# Altium schematic symbol library Optoisolator.SchLib: 2 symbols
Pins are listed as number, name and electrical type; pins without a type are passive.

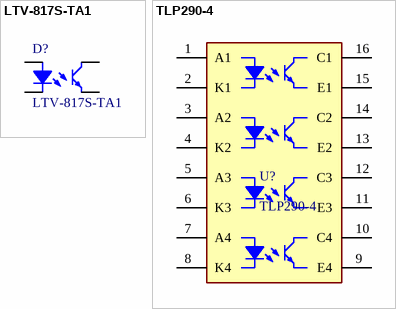
[diagram p0: symbols LTV-817S-TA1 to TLP290-4]

## LTV-817S-TA1
designator D?
OPTOISOLATR 5KV TRANSISTOR 4-SMD; Manufacturer: Lite-On Inc.; Number Of Channels: 1; Voltage - Isolation: 5000Vrms; Current Transfer Ratio (Min): 50% @ 5mA; Current Transfer Ratio (Max): 600% @ 5mA; Rise / Fall Time (Typ): 4us, 3us; Input Type: DC; Voltage - Output (Max): 35V; Current - Output / Channel: 50mA; Voltage - Forward (Vf): 1.2V; Vce Saturation (Max): 200mV; Part Number: LTV-817S-TA1; PartId: 9689; Supplier 1: Digi-Key; Supplier Part Number 1: 160-1893-2-ND; ComponentLink1Description: Datasheet; ComponentLink1URL: http://optoelectronics.liteon.com/upload/download/DS70-2012-0050/S_110_LTV-817%20(M,%20S,%20S-TA,%20S-TA1,%20S-TP)%20Series%2020130925.pdf; ComponentLink2Description: Digi-Key Listing; ComponentLink2URL: http://www.digikey.com/product-detail/en/LTV-817S-TA1/160-1893-2-ND/388451; Price: 0.1233; Device Package: 4-SMD, Gull Wing; Series: -; Turn On / Off Time (Typ): -; Output Type: Transistor; Current - DC Forward (If) (Max): 50mA; Operating Temperature: -30C ~ 110C
footprint LITEON LTV-817
pins: 1, 2, 3, 4

## TLP290-4
designator U?
Input Transistor Output Quad Optocoupler, Surface Mount, 16-pin SOIC; LCSC: C5221832
footprint SOIC127P700X230-16N
pins: 1 A1, 2 K1, 3 A2, 4 K2, 5 A3, 6 K3, 7 A4, 8 K4, 9 E4, 10 C4, 11 E3, 12 C3, 13 E2, 14 C2, 15 E1, 16 C1